# EAGLE library part SAMD21E (library eric_personal_parts)
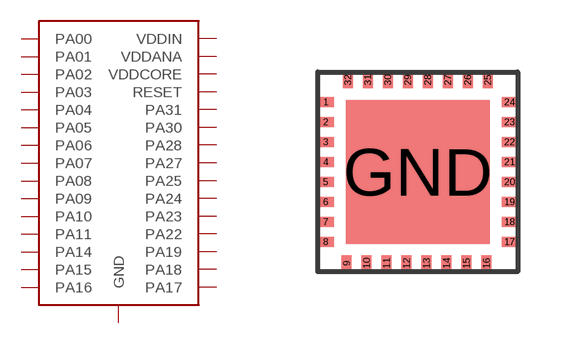
[diagram p11: symbol with the pads of QFN32-5X5; footprint QFN32-5X5]

Designator prefix -

## SAMD21E  [QFN32-5X5]
1  PA00
2  PA01
3  PA02
4  PA03
5  PA04
6  PA05
7  PA06
8  PA07
9  VDDANA
10  GND
11  PA08
12  PA09
13  PA10
14  PA11
15  PA14
16  PA15
17  PA16
18  PA17
19  PA18
20  PA19
21  PA22
22  PA23
23  PA24
24  PA25
25  PA27
26  RESET
27  PA28
28  GND
29  VDDCORE
30  VDDIN
31  PA30
32  PA31
GND  GND

## Footprint QFN32-5X5 (pad centres in mm)
smd 0.4 x 0.25: 1 0.2,4.25; 2 0.2,3.75; 3 0.2,3.25; 4 0.2,2.75; 5 0.2,2.25; 6 0.2,1.75; 7 0.2,1.25; 8 0.2,0.75; 17 4.8,0.75; 18 4.8,1.25; 19 4.8,1.75; 20 4.8,2.25; 21 4.8,2.75; 22 4.8,3.25; 23 4.8,3.75; 24 4.8,4.25
smd 0.25 x 0.4: 9 0.72,0.21; 10 1.22,0.21; 11 1.72,0.21; 12 2.22,0.21; 13 2.72,0.21; 14 3.22,0.21; 15 3.72,0.21; 16 4.22,0.21; 25 4.25,4.8; 26 3.75,4.8; 27 3.25,4.8; 28 2.75,4.8; 29 2.25,4.8; 30 1.75,4.8; 31 1.25,4.8; 32 0.75,4.8
smd 3.6 x 3.6: GND 2.5,2.5